# Altium schematic symbol library 2171800001.SchLib: 1 symbol
Pins are listed as number, name and electrical type; pins without a type are passive.

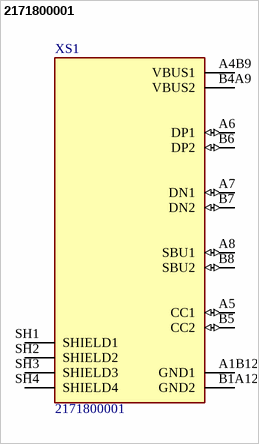
[diagram p0: symbol 2171800001]

## 2171800001
designator XS1
Universal Serial Bus (USB) Shielded I/O Receptacle, Type C, Right-Angle, Surface Mount, Top Mount, Center Height 5.9mm, Single Row, 16 Circuits, Gold (Au) Plating; Manufacturer: Molex; Package: None; Price: None; Value: 2171800001; Part Number: 2171800001; Availability: In Stock
footprint MOLEX_2171800001
pins: A1B12 GND1 (power), A4B9 VBUS1 (power), A5 CC1 (io), A6 DP1 (io), A7 DN1 (io), A8 SBU1 (io), B1A12 GND2 (power), B4A9 VBUS2 (power), B5 CC2 (io), B6 DP2 (io), B7 DN2 (io), B8 SBU2 (io), SH1 SHIELD1, SH2 SHIELD2, SH3 SHIELD3, SH4 SHIELD4